# Altium schematic symbol library 7segMultiplex.SchLib: 1 symbol
Pins are listed as number, name and electrical type; pins without a type are passive.

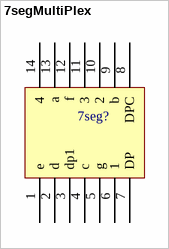
[diagram p0: symbol 7segMultiPlex]

## 7segMultiPlex
designator 7seg?, comment 7seg?  (value not drawn)
footprint 7segMultiplex
pins: 1 e, 2 d, 3 dp1, 4 c, 5 g, 6 1, 7 DP, 8 DPC, 9 b, 10 2, 11 3, 12 f, 13 a, 14 4